# Altium integrated library Texas Instruments.IntLib: 4 symbols
Pins are listed as number, name and electrical type; pins without a type are passive.

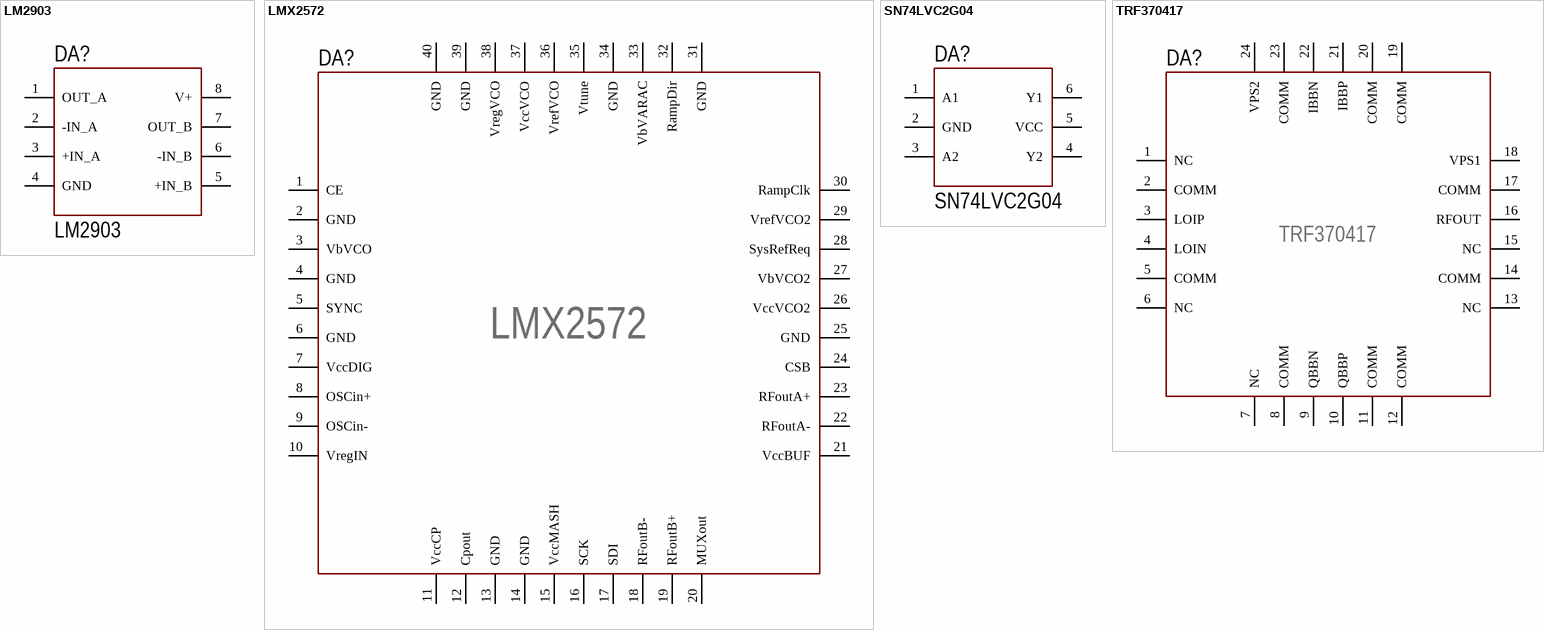
[diagram p0: symbols LM2903 to TRF370417]

## LM2903
designator DA?, comment Part: LM2903  (hidden comment: LM2903M)
Low-Power,Low-OffsetVoltage,Dual Comparator; Case: M
footprint SOIC-8 (pitch 1.27 mm)
pins: 1 OUT_A, 2 -IN_A, 3 +IN_A, 4 GND, 5 +IN_B, 6 -IN_B, 7 OUT_B, 8 V+

## LMX2572
designator DA?, comment Part: LMX2572  (hidden comment: LMX2572RHA)
6.4-GHz Low power wideband RF synthesizer with phase synchronization and JESD204B support; Case: RHA
footprint QFN-40 (QFN, 40-Leads, Body 6.00x6.00mm, Pitch 0.50mm, Thermal Pad 4.50x4.50mm, IPC Medium Density)
pins: 0 hidden to GND, 1 CE, 2 GND, 3 VbVCO, 4 GND, 5 SYNC, 6 GND, 7 VccDIG, 8 OSCin+, 9 OSCin-, 10 VregIN, 11 VccCP, 12 Cpout, 13 GND, 14 GND, 15 VccMASH, 16 SCK, 17 SDI, 18 RFoutB-, 19 RFoutB+, 20 MUXout, 21 VccBUF, 22 RFoutA-, 23 RFoutA+, 24 CSB, 25 GND, 26 VccVCO2, 27 VbVCO2, 28 SysRefReq, 29 VrefVCO2, 30 RampClk, 31 GND, 32 RampDir, 33 VbVARAC, 34 GND, 35 Vtune, 36 VrefVCO, 37 VccVCO, 38 VregVCO, 39 GND, 40 GND

## SN74LVC2G04
designator DA?, comment Part: SN74LVC2G04  (hidden comment: SN74LVC2G04DBV)
Dual Inverter Gate; Case: DBV
footprint SOT23-6 (pitch 0.95 mm)
pins: 1 A1, 2 GND, 3 A2, 4 Y2, 5 VCC, 6 Y1

## TRF370417
designator DA?, comment Part: TRF370417  (hidden comment: TRF370417IRGE)
50MHz to 6.0 GHz Quadrature Modulator, 1.7V common-mode voltage; Case: IRGE
footprint VQFN-24 (QFN, 24-Leads, Body 4.00x4.00mm, Pitch 0.50mm, Thermal Pad 2.45x2.45mm, IPC Medium Density)
pins: 0 hidden to GND, 1 NC, 2 COMM, 3 LOIP, 4 LOIN, 5 COMM, 6 NC, 7 NC, 8 COMM, 9 QBBN, 10 QBBP, 11 COMM, 12 COMM, 13 NC, 14 COMM, 15 NC, 16 RFOUT, 17 COMM, 18 VPS1, 19 COMM, 20 COMM, 21 IBBP, 22 IBBN, 23 COMM, 24 VPS2